# EAGLE library part KMR-1.8 (library KMR-1.8)
KMR-1.8 TFT
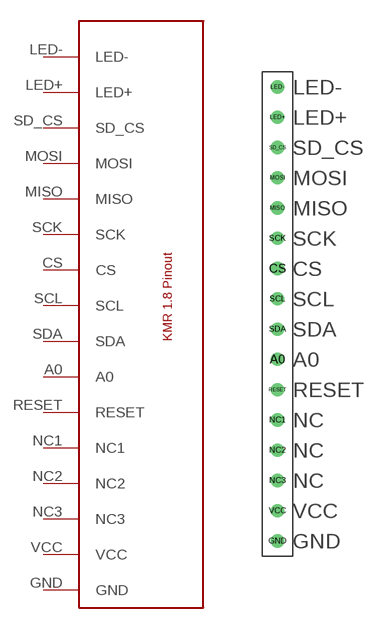
[diagram p0: symbol with the pads of KMR-1.8; footprint KMR-1.8]

Designator prefix -

## KMR-1.8  [KMR-1.8]
A0  A0
CS  CS
GND  GND
LED+  LED+
LED-  LED-
MISO  MISO
MOSI  MOSI
NC1  NC1
NC2  NC2
NC3  NC3
RESET  RESET
SCK  SCK
SCL  SCL
SD_CS  SD_CS
SDA  SDA
VCC  VCC

## Footprint KMR-1.8 (pad centres in mm)
drill 0.6: A0 -2.54,15.24; CS -2.54,22.86; GND -2.54,0; LED+ -2.54,35.56; LED- -2.54,38.1; MISO -2.54,27.94; MOSI -2.54,30.48; NC1 -2.54,10.16; NC2 -2.54,7.62; NC3 -2.54,5.08; RESET -2.54,12.7; SCK -2.54,25.4; SCL -2.54,20.32; SD_CS -2.54,33.02; SDA -2.54,17.78; VCC -2.54,2.54